# Altium footprint library JST SM06B-PASS-TB.PCBLIB: 1 footprints
Each footprint in its own frame and in the unit in brackets; x right, y up, seen from the top. Pads: shape width x height; smd on the part's side, far side on the other; paste and mask are expansions set on the pad; w line width, h text height; cw(c..) or ccw(c..) is an arc to the next point about the centre after c.
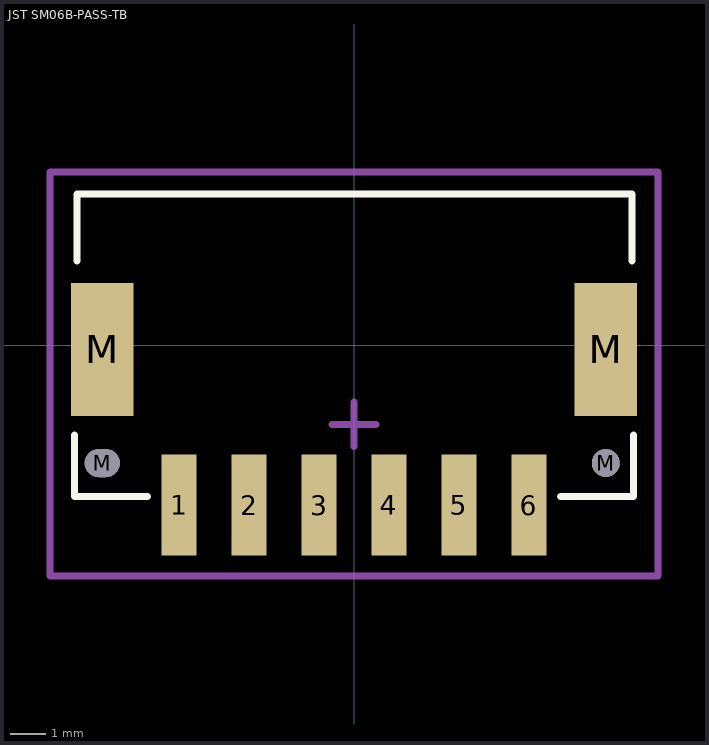
[diagram p0: the footprint, top view; thin cyan lines are the x and y axes]

## JST SM06B-PASS-TB [mm] "JST PA Series 2mm pitch, side entry connector"
height 5.7
pads (10):
  rect 1x2.9 smd: 1(-5,-4.575) 2(-3,-4.575) 3(-1,-4.575) 4(1,-4.575) 5(3,-4.575) 6(5,-4.575)
  oval 1x0.8 hole 0.8 slot 1 at 0 deg unplated mask+0.102: M(-7.2,-3.375)
  rect 1.8x3.8 smd: M(-7.2,-0.125) M(7.2,-0.125)
  round 0.8 hole 0.8 unplated mask+0.102: M(7.2,-3.375)
Top Overlay:
  lines w0.2: -8,-2.575 -8,-4.325 -5.905,-4.325 ; -7.921,2.41 -7.921,4.315 7.953,4.315 7.953,2.41 ; 5.905,-4.325 8,-4.325 8,-2.575
Mechanical 15:
  lines w0.2: -0.635,-2.265 0.635,-2.265 ; 0,-2.9 0,-1.63 ; -8.699,-6.607 8.699,-6.607 8.699,4.953 -8.699,4.953 -8.699,-6.607
3D body "JST SM06B-PASS-TB.STEP": height 5.8, standoff 0, extent -8,-5.641 8,4.359